# EAGLE library part MT9V125 (library Traficon)
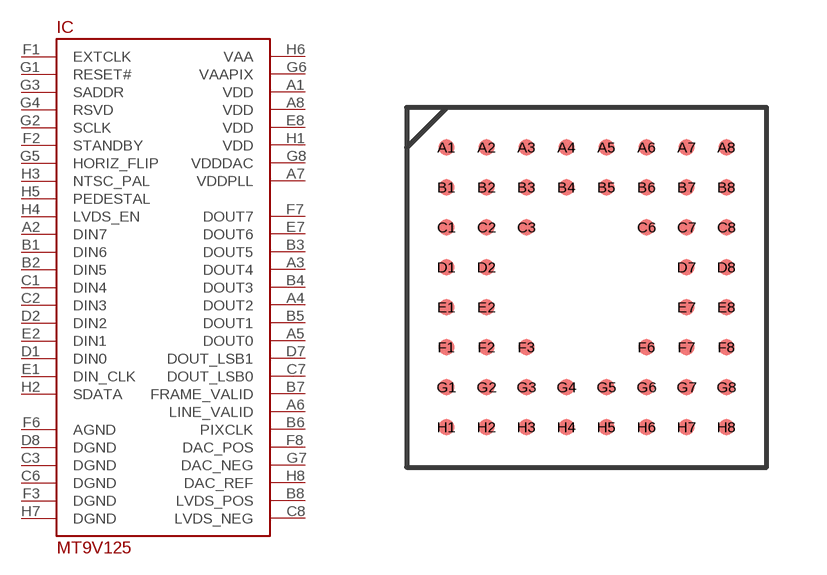
[diagram p149: symbol with the pads of I-BGA52; footprint I-BGA52]

Designator prefix IC

## MT9V125  [I-BGA52]
A1  VDD  pwr
A2  DIN7  in
A3  DOUT4  out
A4  DOUT2  out
A5  DOUT0  out
A6  LINE_VALID  out
A7  VDDPLL  pwr
A8  VDD  pwr
B1  DIN6  in
B2  DIN5  in
B3  DOUT5  out
B4  DOUT3  out
B5  DOUT1  out
B6  PIXCLK  out
B7  FRAME_VALID  out
B8  LVDS_POS  out
C1  DIN4  in
C2  DIN3  in
C3  DGND  pwr
C6  DGND  pwr
C7  DOUT_LSB0  out
C8  LVDS_NEG  out
D1  DIN0  in
D2  DIN2  in
D7  DOUT_LSB1  out
D8  DGND  pwr
E1  DIN_CLK  in
E2  DIN1  in
E7  DOUT6  out
E8  VDD  pwr
F1  EXTCLK  in
F2  STANDBY  in
F3  DGND  pwr
F6  AGND  pwr
F7  DOUT7  out
F8  DAC_POS  out
G1  RESET#  in
G2  SCLK  in
G3  SADDR  in
G4  RSVD  in
G5  HORIZ_FLIP  in
G6  VAAPIX  pwr
G7  DAC_NEG  out
G8  VDDDAC  pwr
H1  VDD  pwr
H2  SDATA  in
H3  NTSC_PAL  in
H4  LVDS_EN  in
H5  PEDESTAL  in
H6  VAA  pwr
H7  DGND  pwr
H8  DAC_REF  out

## Footprint I-BGA52 (pad centres in mm)
smd 0.4 x 0.4: A1 -3.5,3.5; A2 -2.5,3.5; A3 -1.5,3.5; A4 -0.5,3.5; A5 0.5,3.5; A6 1.5,3.5; A7 2.5,3.5; A8 3.5,3.5; B1 -3.5,2.5; B2 -2.5,2.5; B3 -1.5,2.5; B4 -0.5,2.5; B5 0.5,2.5; B6 1.5,2.5; B7 2.5,2.5; B8 3.5,2.5; C1 -3.5,1.5; C2 -2.5,1.5; C3 -1.5,1.5; C6 1.5,1.5; C7 2.5,1.5; C8 3.5,1.5; D1 -3.5,0.5; D2 -2.5,0.5; D7 2.5,0.5; D8 3.5,0.5; E1 -3.5,-0.5; E2 -2.5,-0.5; E7 2.5,-0.5; E8 3.5,-0.5; F1 -3.5,-1.5; F2 -2.5,-1.5; F3 -1.5,-1.5; F6 1.5,-1.5; F7 2.5,-1.5; F8 3.5,-1.5; G1 -3.5,-2.5; G2 -2.5,-2.5; G3 -1.5,-2.5; G4 -0.5,-2.5; G5 0.5,-2.5; G6 1.5,-2.5; G7 2.5,-2.5; G8 3.5,-2.5; H1 -3.5,-3.5; H2 -2.5,-3.5; H3 -1.5,-3.5; H4 -0.5,-3.5; H5 0.5,-3.5; H6 1.5,-3.5; H7 2.5,-3.5; H8 3.5,-3.5